# Altium footprint library J PCB lib.PcbLib: 461 footprints (part 17 of 29)
Each footprint in its own frame and in the unit in brackets; x right, y up, seen from the top. Pads: shape width x height; smd on the part's side, far side on the other; paste and mask are expansions set on the pad; w line width, h text height; cw(c..) or ccw(c..) is an arc to the next point about the centre after c.
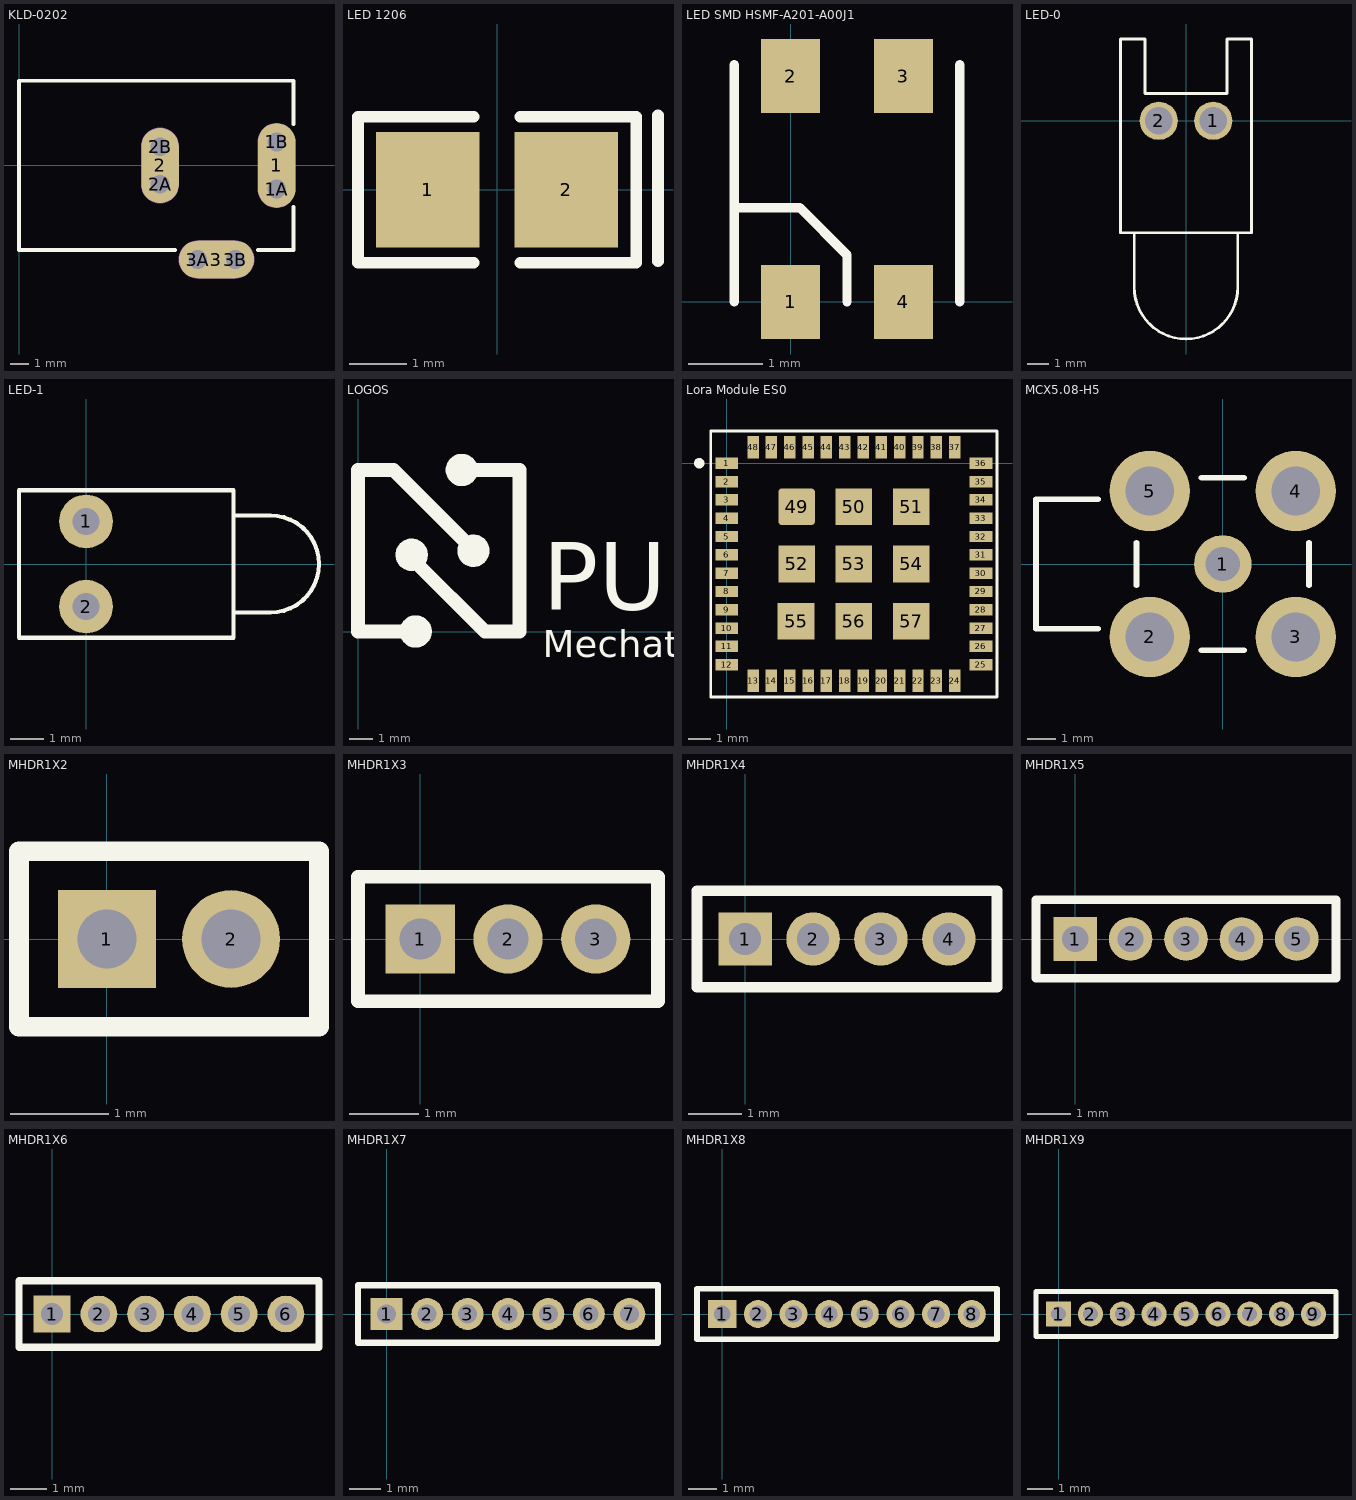
[diagram p16: the footprints below, top view; thin cyan lines are the x and y axes]

## KLD-0202 [mm] "DC Power Jack, 2.5mm, KLD Series, PCB Mount"
pads (9):
  oval 2x4.5 all layers, no hole: 1(13.7,0)
  round 1.5 hole 1: 1A(13.7,-1.25) 1B(13.7,1.25) 2A(7.5,-1) 2B(7.5,1) 3A(9.5,-5) 3B(11.5,-5)
  oval 2x4 all layers, no hole: 2(7.5,0)
  oval 4x2 all layers, no hole: 3(10.5,-5)
Top Overlay:
  lines w0.2: 8.3,-4.5 0,-4.5 0,4.5 14.6,4.5 14.6,2.2 ; 12.7,-4.5 14.6,-4.5 14.6,-2.2
Mechanical 1:
  lines w1: 7.5,-1 7.5,1 ; 9.5,-5 11.5,-5 ; 13.7,-1.25 13.7,1.25
  text "Alert PCB fab to slot details" at 0.286,6.066 h0.3
  text "Assign keep-out area to slot" at 0.286,6.566 h0.3
  text "Mech 1 - Slot cut-out" at 0.286,5.566 h0.3
  text "Mech 2 - Clearance, move to internal plane if present" at 0.286,5.066 h0.3
Mechanical 2:
  lines w2.016: 7.5,-1 7.5,1 ; 9.5,-5 11.5,-5 ; 13.7,-1.25 13.7,1.25

## LED 1206 [mm] "SMD 1206 Pol"
height 1
pads (2):
  rect 1.8x2 smd: 1(-1.2,0) 2(1.2,0)
Top Overlay:
  lines w0.2: -0.4,-1.27 -2.413,-1.27 -2.413,1.27 -0.4,1.27 ; 0.4,-1.27 2.413,-1.27 2.413,1.27 0.4,1.27 ; 2.794,-1.245 2.794,1.295

## LED SMD HSMF-A201-A00J1 [mm]
pads (4):
  rect 0.8x1 smd: 1(0,0) 2(0,3.048) 3(1.524,3.048) 4(1.524,0)
Top Overlay:
  lines w0.127: -0.762,0 -0.762,3.2 ; -0.762,1.27 0.127,1.27 0.762,0.635 0.762,0 ; 2.286,0 2.286,3.2

## LED-0 [mil] "LED; 2 Leads"
pads (2):
  round 70 hole 50: 1(50,0) 2(-50,0)
Top Overlay:
  lines w5: -95,-205 -95,-305 ccw(c0,-305) 95,-305 95,-205 ; -120,-205 -120,150 -75,150 -75,50 75,50 75,150 120,150 120,-205 -120,-205

## LED-1 [mm] "LED; 2 Leads"
pads (2):
  round 1.6 hole 0.8: 1(0,1.27) 2(0,-1.27)
Top Overlay:
  lines w0.127: 4.4,-1.45 5.5,-1.45 ccw(c5.5,0) 5.5,1.45 4.4,1.45 ; -2,-2.2 4.4,-2.2 4.4,2.2 -2,2.2 -2,-2.2

## LOGOS [mm]
Top Overlay:
  circle w0.7: c2.5,0 r0.35
  circle w0.7: c2.325,3.325 r0.35
  circle w0.7: c5,3.5 r0.35
  circle w0.7: c4.5,7 r0.35
  lines w0.6: 2.5,3.5 2.5,3 5.5,0 7,0 7,7 5,7 ; 2.75,0 0,0 0,7 1.5,7 ; 5.03,3.505 1.534,7 1.5,7 ; 1.5,7 1.5,7
  text "PULSE" at 8,0 h5
  text "Mechatronics" at 8,-1.5 h2

## Lora Module ES0 [mm]
pads (57):
  rect 1x0.5 smd: 1(0,0) 2(0,-0.8) 3(0,-1.6) 4(0,-2.4) 5(0,-3.2) 6(0,-4) 7(0,-4.8) 8(0,-5.6) 9(0,-6.4) 10(0,-7.2) 11(0,-8) 12(0,-8.8) 25(11.1,-8.8) 26(11.1,-8) 27(11.1,-7.2) 28(11.1,-6.4) 29(11.1,-5.6) 30(11.1,-4.8) 31(11.1,-4) 32(11.1,-3.2) 33(11.1,-2.4) 34(11.1,-1.6) 35(11.1,-0.8) 36(11.1,0)
  rect 0.5x1 smd: 13(1.15,-9.5) 14(1.95,-9.5) 15(2.75,-9.5) 16(3.55,-9.5) 17(4.35,-9.5) 18(5.15,-9.5) 19(5.95,-9.5) 20(6.75,-9.5) 21(7.55,-9.5) 22(8.35,-9.5) 23(9.15,-9.5) 24(9.95,-9.5) 37(9.95,0.7) 38(9.15,0.7) 39(8.35,0.7) 40(7.55,0.7) 41(6.75,0.7) 42(5.95,0.7) 43(5.15,0.7) 44(4.35,0.7) 45(3.55,0.7) 46(2.75,0.7) 47(1.95,0.7) 48(1.15,0.7)
  rrect20% 1.6x1.6 smd: 49(3.05,-1.9)
  rect 1.6x1.6 smd: 50(5.55,-1.9) 51(8.05,-1.9) 52(3.05,-4.4) 53(5.55,-4.4) 54(8.05,-4.4) 55(3.025,-6.9) 56(5.55,-6.9) 57(8.05,-6.9)
Top Overlay:
  circle w0.254: c-1.2,0 r0.1
  lines w0.127: -0.7,-10.2 -0.7,1.4 11.8,1.4 11.8,-10.2 -0.7,-10.2

## MCX5.08-H5 [mm] "Connector; RF Coaxial, MCX, Thru-Hole; 5 Position; Right-Angle"
height 5.85
pads (5):
  round 2 hole 1.2: 1(0,0)
  round 2.8 hole 1.7: 2(-2.54,-2.54) 3(2.54,-2.54) 4(2.54,2.54) 5(-2.54,2.54)
Top Overlay:
  lines w0.2: -4.34,-2.25 -6.5,-2.25 -6.5,2.25 -4.34,2.25 ; -3,-0.74 -3,0.74 ; -0.74,-3 0.74,-3 ; -0.74,3 0.74,3 ; 3,-0.74 3,0.74

## MHDR1X2 [mm] "Connector; Header; 2 Position"
pads (2):
  rect 1x1 hole 0.6: 1(0,0)
  round 1 hole 0.6: 2(1.27,0)
Top Overlay:
  lines w0.2: -0.9,-0.9 -0.9,0.9 2.17,0.9 2.17,-0.9 -0.9,-0.9

## MHDR1X3 [mm] "Connector; Header; 3 Position"
pads (3):
  rect 1x1 hole 0.6: 1(0,0)
  round 1 hole 0.6: 2(1.27,0) 3(2.54,0)
Top Overlay:
  lines w0.2: -0.9,-0.9 3.44,-0.9 3.44,0.9 -0.9,0.9 -0.9,-0.9

## MHDR1X4 [mm] "Connector; Header; 4 Position"
pads (4):
  rect 1x1 hole 0.6: 1(0,0)
  round 1 hole 0.6: 2(1.27,0) 3(2.54,0) 4(3.81,0)
Top Overlay:
  lines w0.2: -0.9,-0.9 -0.9,0.9 4.71,0.9 4.71,-0.9 -0.9,-0.9

## MHDR1X5 [mm] "Connector; Header; 5 Position"
pads (5):
  rect 1x1 hole 0.6: 1(0,0)
  round 1 hole 0.6: 2(1.27,0) 3(2.54,0) 4(3.81,0) 5(5.08,0)
Top Overlay:
  lines w0.2: -0.9,-0.9 -0.9,0.9 5.98,0.9 5.98,-0.9 -0.9,-0.9

## MHDR1X6 [mm] "Connector; Header; 6 Position"
pads (6):
  rect 1x1 hole 0.6: 1(0,0)
  round 1 hole 0.6: 2(1.27,0) 3(2.54,0) 4(3.81,0) 5(5.08,0) 6(6.35,0)
Top Overlay:
  lines w0.2: -0.9,-0.9 7.25,-0.9 7.25,0.9 -0.9,0.9 -0.9,-0.9

## MHDR1X7 [mm] "Connector; Header; 7 Position"
pads (7):
  rect 1x1 hole 0.6: 1(0,0)
  round 1 hole 0.6: 2(1.27,0) 3(2.54,0) 4(3.81,0) 5(5.08,0) 6(6.35,0) 7(7.62,0)
Top Overlay:
  lines w0.2: -0.9,-0.9 -0.9,0.9 8.52,0.9 8.52,-0.9 -0.9,-0.9

## MHDR1X8 [mm] "Connector; Header; 8 Position"
pads (8):
  rect 1x1 hole 0.6: 1(0,0)
  round 1 hole 0.6: 2(1.27,0) 3(2.54,0) 4(3.81,0) 5(5.08,0) 6(6.35,0) 7(7.62,0) 8(8.89,0)
Top Overlay:
  lines w0.2: -0.9,-0.9 -0.9,0.9 9.79,0.9 9.79,-0.9 -0.9,-0.9

## MHDR1X9 [mm] "Connector; Header; 9 Position"
pads (9):
  rect 1x1 hole 0.6: 1(0,0)
  round 1 hole 0.6: 2(1.27,0) 3(2.54,0) 4(3.81,0) 5(5.08,0) 6(6.35,0) 7(7.62,0) 8(8.89,0) 9(10.16,0)
Top Overlay:
  lines w0.2: -0.9,-0.9 11.06,-0.9 11.06,0.9 -0.9,0.9 -0.9,-0.9